# EAGLE library part VDIP2-MINIMAL (library ChapR-Custom)
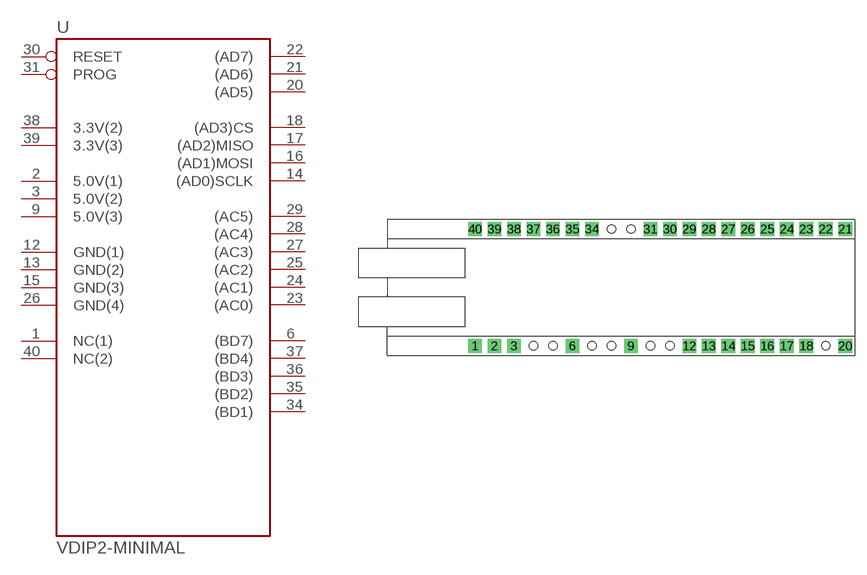
[diagram p2: symbol with the pads of VDIP2-BIGHOLE-MINIMAL; footprint VDIP2-BIGHOLE-MINIMAL]

Designator prefix -

## VDIP2-MINIMAL  [VDIP2-BIGHOLE-MINIMAL]
1  NC(1)  pwr
2  5.0V(1)  pwr
3  5.0V(2)  pwr
6  (BD7)
9  5.0V(3)  pwr
12  GND(1)  pwr
13  GND(2)  pwr
14  (AD0)SCLK
15  GND(3)  pwr
16  (AD1)MOSI
17  (AD2)MISO
18  (AD3)CS
20  (AD5)
21  (AD6)
22  (AD7)
23  (AC0)
24  (AC1)
25  (AC2)
26  GND(4)  pwr
27  (AC3)
28  (AC4)
29  (AC5)
30  RESET  in
31  PROG  in
34  (BD1)
35  (BD2)
36  (BD3)
37  (BD4)
38  3.3V(2)  pwr
39  3.3V(3)  in
40  NC(2)  pwr

## Footprint VDIP2-BIGHOLE-MINIMAL (pad centres in mm)
drill 1.1 pad 1.778 square: 1 -17.78,-7.62; 2 -15.24,-7.62; 3 -12.7,-7.62; 6 -5.08,-7.62; 9 2.54,-7.62; 12 10.16,-7.62; 13 12.7,-7.62; 14 15.24,-7.62; 15 17.78,-7.62; 16 20.32,-7.62; 17 22.86,-7.62; 18 25.4,-7.62; 20 30.48,-7.62; 21 30.48,7.62; 22 27.94,7.62; 23 25.4,7.62; 24 22.86,7.62; 25 20.32,7.62; 26 17.78,7.62; 27 15.24,7.62; 28 12.7,7.62; 29 10.16,7.62; 30 7.62,7.62; 31 5.08,7.62; 34 -2.54,7.62; 35 -5.08,7.62; 36 -7.62,7.62; 37 -10.16,7.62; 38 -12.7,7.62; 39 -15.24,7.62; 40 -17.78,7.62
hole 1.1 at 0,7.62
hole 1.1 at 2.54,7.62
hole 1.1 at -10.16,-7.62
hole 1.1 at -7.62,-7.62
hole 1.1 at -2.54,-7.62
hole 1.1 at 0,-7.62
hole 1.1 at 5.08,-7.62
hole 1.1 at 7.62,-7.62
hole 1.1 at 27.94,-7.62